# Altium footprint library AMT.PcbLib: 1 footprints
Each footprint in its own frame and in the unit in brackets; x right, y up, seen from the top. Pads: shape width x height; smd on the part's side, far side on the other; paste and mask are expansions set on the pad; w line width, h text height; cw(c..) or ccw(c..) is an arc to the next point about the centre after c.
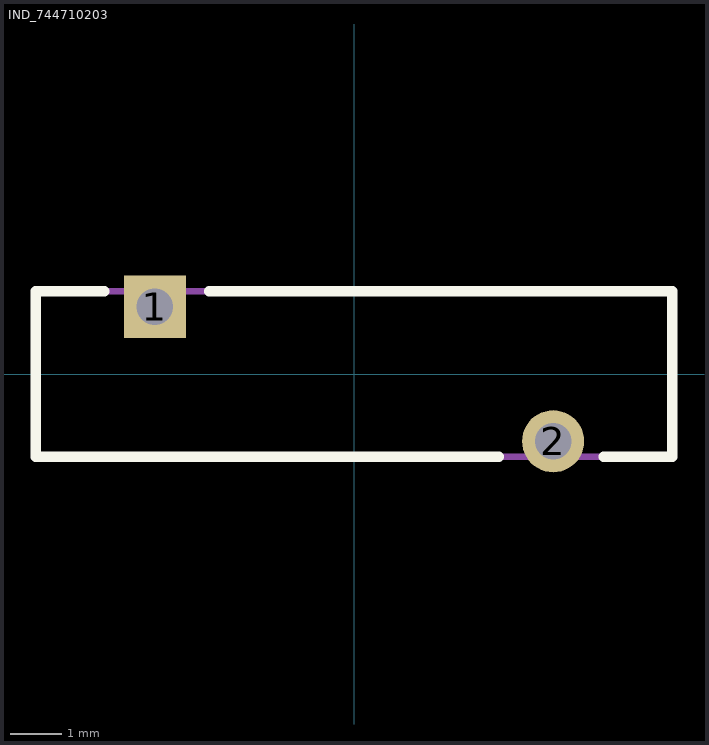
[diagram p0: the footprint, top view; thin cyan lines are the x and y axes]

## IND_744710203 [mm] "FIXED IND 2UH 2.5A 11 MOHM TH"
height 3.2
pads (2):
  rect 1.2x1.2 hole 0.7: 1(-3.85,1.3)
  round 1.2 hole 0.7: 2(3.85,-1.3)
Top Overlay:
  lines w0.203: -4.826,1.6 -6.15,1.6 -6.15,-1.6 2.794,-1.6 ; -2.794,1.6 6.15,1.6 6.15,-1.6 4.826,-1.6
Mechanical 1:
  text "'.Designator'" at -0.508,0.127 h1.52
Mechanical 15:
  lines w0.127: -6.15,-1.6 6.15,-1.6 6.15,1.6 -6.15,1.6 -6.15,-1.6
3D body "744710203_Download_STP_744710203_rev1.stp": height 3.3, standoff -2.9, extent -6.15,-1.6 6.15,1.6